# Altium schematic symbol library SCH - CONNECTORS - SAMTEC -TSW-102-07-G-S.SchLib: 1 symbol
Pins are listed as number, name and electrical type; pins without a type are passive.

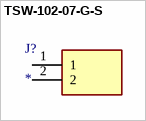
[diagram p0: symbol TSW-102-07-G-S]

## TSW-102-07-G-S
designator J?
Connector; Manufacturer_Name: SAMTEC; Manufacturer_Part_Number: TSW-102-07-G-S; Datasheet Link: http://suddendocs.samtec.com/prints/tsw-xxx-xx-xxx-x-xx-xxx-mkt.pdf; Mouser Part Number: 200-TSW10207GS; Mouser Price/Stock: https://www.mouser.co.uk/ProductDetail/Samtec/TSW-102-07-G-S?qs=iT52DjcXudsNPhlNCDp8vw%3D%3D; Arrow Part Number: TSW-102-07-G-S; Arrow Price/Stock: https://www.arrow.com/en/products/tsw-102-07-g-s/samtec?utm_currency=USD&region=nac
footprint TSW-102-XX-YY-S
pins: 1, 2